# EAGLE library part NANOPI_NEO_1.3 (library FriendlyArm)
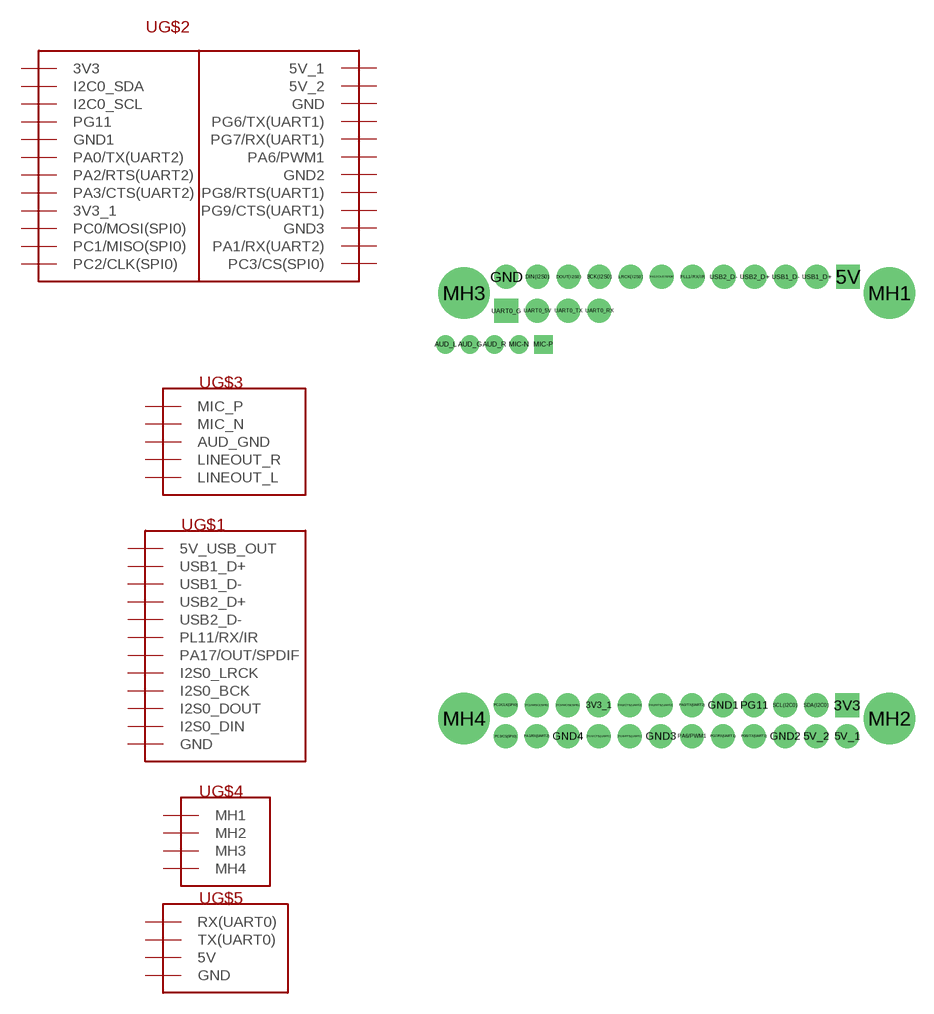
[diagram p1: symbol with the pads of NANOPI_NEO_1.3; footprint NANOPI_NEO_1.3]

Designator prefix U; gates G$1=NANOPI_NEO_1.2_1X12 G$2=NANOPI_NEO_1.3_2X12 G$3=NANOPI_NEO_1.3_HP_MIC G$4=MH G$5=NANOPI_NEO_1.3_UART0

## NANOPI_NEO_1.3V1.3  [NANOPI_NEO_1.3]
3V3  G$2:3V3
3V3_1  G$2:3V3_1
5V  G$1:5V_USB_OUT
5V_1  G$2:5V_1
5V_2  G$2:5V_2
AUD_G  G$2:GND
AUD_L  G$3:LINEOUT_L
AUD_R  G$3:LINEOUT_R
BCK(I2S0)  G$1:I2S0_BCK
DIN(I2S0)  G$1:I2S0_DIN
DOUT(I2S0)  G$1:I2S0_DOUT
GND  G$1:GND
GND1  G$2:GND1
GND2  G$2:GND2
GND3  G$2:GND3
GND4  G$3:AUD_GND
LRCK(I2S0)  G$1:I2S0_LRCK
MH1  G$4:MH1
MH2  G$4:MH2
MH3  G$4:MH3
MH4  G$4:MH4
MIC-N  G$3:MIC_N
MIC-P  G$3:MIC_P
PA0/TX(UART2)  G$2:PA0/TX(UART2)
PA1/RX(UART2)  G$2:PA1/RX(UART2)
PA2/RTS(UART2)  G$2:PA2/RTS(UART2)
PA3/CTS(UART2)  G$2:PA3/CTS(UART2)
PA6/PWM1  G$2:PA6/PWM1
PA17/OUT/SPDIF  G$1:PA17/OUT/SPDIF
PC0/MOSI(SPI0)  G$2:PC0/MOSI(SPI0)
PC1/MISO(SPI0)  G$2:PC1/MISO(SPI0)
PC2/CLK(SPI0)  G$2:PC2/CLK(SPI0)
PC3/CS(SPI0)  G$2:PC3/CS(SPI0)
PG6/TX(UART1)  G$2:PG6/TX(UART1)
PG7/RX(UART1)  G$2:PG7/RX(UART1)
PG8/RTS(UART1)  G$2:PG8/RTS(UART1)
PG9/CTS(UART1)  G$2:PG9/CTS(UART1)
PG11  G$2:PG11
PLL1/RX/IR  G$1:PL11/RX/IR
SCL(I2C0)  G$2:I2C0_SCL
SDA(I2C0)  G$2:I2C0_SDA
UART0_5V  G$5:5V
UART0_G  G$5:GND
UART0_RX  G$5:RX(UART0)
UART0_TX  G$5:TX(UART0)
USB1_D+  G$1:USB1_D+
USB1_D-  G$1:USB1_D-
USB2_D+  G$1:USB2_D+
USB2_D-  G$1:USB2_D-

## Footprint NANOPI_NEO_1.3 (pad centres in mm)
drill 1.3 square: 3V3 0.91,6.865; 5V 0.97,41.91; UART0_G -26.98,39.12
drill 1.3: 3V3_1 -19.41,6.865; 5V_1 0.91,4.325; 5V_2 -1.63,4.325; BCK(I2S0) -19.35,41.91; DIN(I2S0) -24.43,41.91; DOUT(I2S0) -21.89,41.91; GND -26.97,41.91; GND1 -9.25,6.865; GND2 -4.17,4.325; GND3 -14.33,4.325; GND4 -21.95,4.325; LRCK(I2S0) -16.81,41.91; PA0/TX(UART2) -11.79,6.865; PA1/RX(UART2) -24.49,4.325; PA2/RTS(UART2) -14.33,6.865; PA3/CTS(UART2) -16.87,6.865; PA6/PWM1 -11.79,4.325; PA17/OUT/SPDIF -14.27,41.91; PC0/MOSI(SPI0) -21.95,6.865; PC1/MISO(SPI0) -24.49,6.865; PC2/CLK(SPI0) -27.03,6.865; PC3/CS(SPI0) -27.03,4.325; PG6/TX(UART1) -6.71,4.325; PG7/RX(UART1) -9.25,4.325; PG8/RTS(UART1) -16.87,4.325; PG9/CTS(UART1) -19.41,4.325; PG11 -6.71,6.865; PLL1/RX/IR -11.73,41.91; SCL(I2C0) -4.17,6.865; SDA(I2C0) -1.63,6.865; UART0_5V -24.44,39.12; UART0_RX -19.36,39.12; UART0_TX -21.9,39.12; USB1_D+ -1.57,41.91; USB1_D- -4.11,41.91; USB2_D+ -6.65,41.91; USB2_D- -9.19,41.91
drill 1: AUD_G -29.945,36.37; AUD_L -31.945,36.37; AUD_R -27.945,36.37; MIC-N -25.945,36.37
drill 3.2: MH1 4.38,40.58; MH2 4.38,5.78; MH3 -30.42,40.58; MH4 -30.42,5.78
drill 1 square: MIC-P -23.945,36.37